# EAGLE library part MSK12C02 (library MSK12C02)
SMD Toggle Switches Source: Datasheet <https://shouhan.en.made-in-china.com/product/xsMEmqgOAXWB/China-Slide-Switch-Msk12c02-Slide-Switch-on-off-2-Position-1p2t-Spdt-Miniature-Horizontal-SMD-7p-Slide-Switch.html>
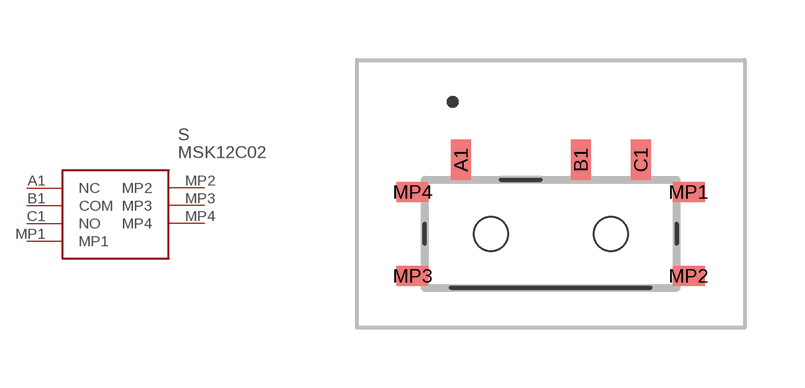
[diagram p0: symbol with the pads of MSK12C02; footprint MSK12C02]

Designator prefix S

## MSK12C02 (Description: SMD Toggle Switches; Height: 1.4mm; Manufacturer_Name: Shou Han; Manufacturer_Part_Number: MSK12C02)  [MSK12C02]
A1  NC  nc
B1  COM
C1  NO
MP1  MP1
MP2  MP2
MP3  MP3
MP4  MP4

## Footprint MSK12C02 (pad centres in mm)
MSK12C02-1
smd 0.5 x 1: A1 -2.25,1.85; B1 0.75,1.85; C1 2.25,1.85
smd 0.8 x 0.5: MP1 3.45,1.05; MP2 3.45,-1.05; MP3 -3.45,-1.05; MP4 -3.45,1.05
hole 0.85 at -1.5,0
hole 0.85 at 1.5,0